# Altium schematic symbol library Mos_Alpha&Omega_AO3401A_4A.SchLib: 1 symbol
Pins are listed as number, name and electrical type; pins without a type are passive.

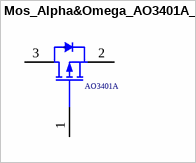
[diagram p0: symbol Mos_Alpha&Omega_AO3401A_4A]

## Mos_Alpha&Omega_AO3401A_4A
designator *  Series: AO3401A  (hidden comment: Mos_Alpha&Omega_AO3401A_4A)
P-Channel 30V 4A (Ta) 1.4W (Ta) Surface Mount SOT-23-3L; Supplier 1: Digi-key; Supplier Part Number 1: 785-1001-1-ND
footprint Mos_Alpha&Omega_AO3401A_4A (P-Channel 30V 4A (Ta) 1.4W (Ta) Surface Mount SOT-23-3L)
pins: 1 G, 2 S, 3 D